# EAGLE library part ATMEGA48 (library Atmel)
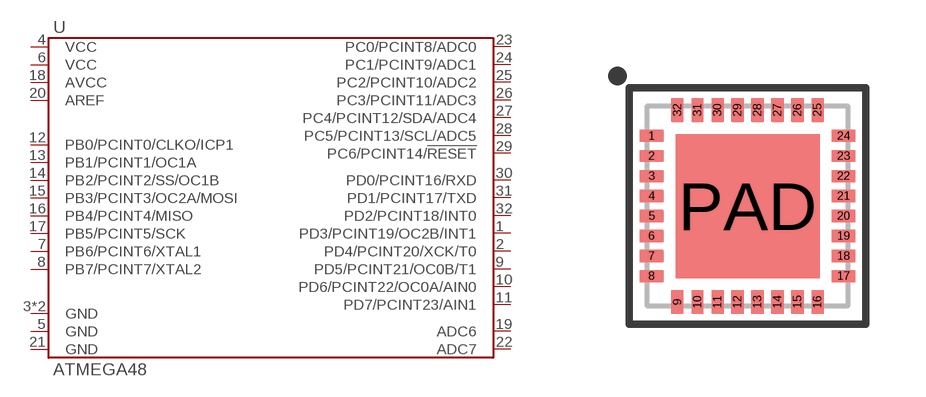
[diagram p26: symbol with the pads of QFN-32-5MM; footprint QFN-32-5MM]

Designator prefix U

## ATMEGA48A-MU  [QFN-32-5MM]
1  PD3/PCINT19/OC2B/INT1
2  PD4/PCINT20/XCK/T0
3  GND
4  VCC
5  GND
6  VCC
7  PB6/PCINT6/XTAL1
8  PB7/PCINT7/XTAL2
9  PD5/PCINT21/OC0B/T1
10  PD6/PCINT22/OC0A/AIN0
11  PD7/PCINT23/AIN1
12  PB0/PCINT0/CLKO/ICP1
13  PB1/PCINT1/OC1A
14  PB2/PCINT2/SS/OC1B
15  PB3/PCINT3/OC2A/MOSI
16  PB4/PCINT4/MISO
17  PB5/PCINT5/SCK
18  AVCC
19  ADC6
20  AREF
21  GND
22  ADC7
23  PC0/PCINT8/ADC0
24  PC1/PCINT9/ADC1
25  PC2/PCINT10/ADC2
26  PC3/PCINT11/ADC3
27  PC4/PCINT12/SDA/ADC4
28  PC5/PCINT13/SCL/ADC5
29  PC6/PCINT14/!RESET
30  PD0/PCINT16/RXD
31  PD1/PCINT17/TXD
32  PD2/PCINT18/INT0
PAD  GND

## Footprint QFN-32-5MM (pad centres in mm)
smd 0.6 x 0.3: 1 -2.4,1.75; 2 -2.4,1.25; 3 -2.4,0.75; 4 -2.4,0.25; 5 -2.4,-0.25; 6 -2.4,-0.75; 7 -2.4,-1.25; 8 -2.4,-1.75; 17 2.4,-1.75; 18 2.4,-1.25; 19 2.4,-0.75; 20 2.4,-0.25; 21 2.4,0.25; 22 2.4,0.75; 23 2.4,1.25; 24 2.4,1.75
smd 0.3 x 0.6: 9 -1.75,-2.4; 10 -1.25,-2.4; 11 -0.75,-2.4; 12 -0.25,-2.4; 13 0.25,-2.4; 14 0.75,-2.4; 15 1.25,-2.4; 16 1.75,-2.4; 25 1.75,2.4; 26 1.25,2.4; 27 0.75,2.4; 28 0.25,2.4; 29 -0.25,2.4; 30 -0.75,2.4; 31 -1.25,2.4; 32 -1.75,2.4
smd 3.6 x 3.6: PAD 0,0